# Altium schematic symbol library EL-sense_ADC.SchLib: 2 symbols
Pins are listed as number, name and electrical type; pins without a type are passive.

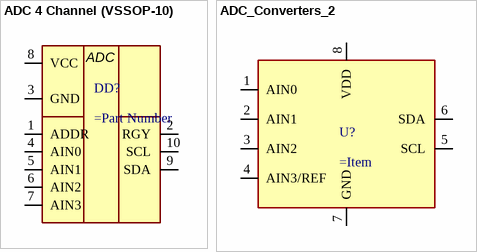
[diagram p0: symbols ADC 4 Channel (VSSOP-10) to ADC_Converters_2]

## ADC 4 Channel (VSSOP-10)
designator DD?
pins: 1 ADDR, 2 RGY, 3 GND, 4 AIN0, 5 AIN1, 6 AIN2, 7 AIN3, 8 VCC, 9 SDA, 10 SCL
text: ADC

## ADC_Converters_2
designator U?
pins: 1 AIN0, 2 AIN1, 3 AIN2, 4 AIN3/REF, 5 SCL, 6 SDA, 7 GND, 8 VDD